# Altium schematic symbol library C0402.SchLib: 1 symbol
Pins are listed as number, name and electrical type; pins without a type are passive.

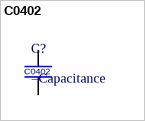
[diagram p0: symbol C0402]

## C0402
designator C?
pins: 1, 2